# Altium schematic symbol library MaximG.SchLib: 1 symbol
Pins are listed as number, name and electrical type; pins without a type are passive.

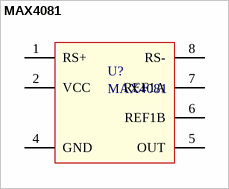
[diagram p0: symbol MAX4081]

## MAX4081
designator U?
pins: 1 RS+, 2 VCC (power), 4 GND (power), 5 OUT (power), 6 REF1B (power), 7 REF1A (power), 8 RS- (power)